# Altium schematic symbol library ADolya_ShLib.SchLib: 20 symbols
Pins are listed as number, name and electrical type; pins without a type are passive.

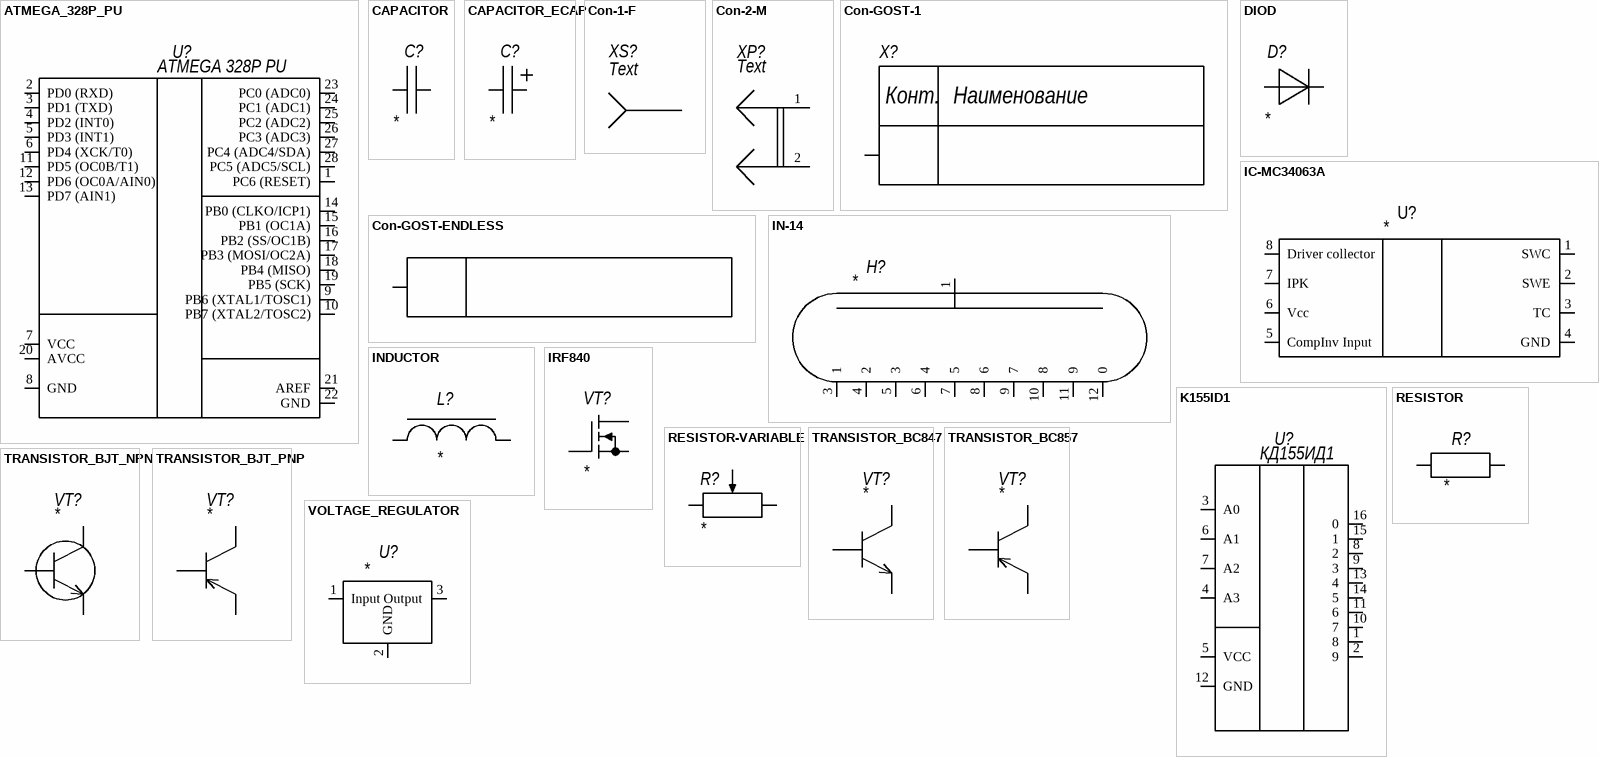
[diagram p0: symbols ATMEGA_328P_PU to VOLTAGE_REGULATOR]

## ATMEGA_328P_PU
designator U?, comment ATMEGA 328P PU
MANUFACTURER: *; MODEL: ATMEGA 328P PU; URL: *
footprint DIP28
pins: 1 PC6 (RESET) (power), 2 PD0 (RXD) (power), 3 PD1 (TXD) (power), 4 PD2 (INT0) (power), 5 PD3 (INT1) (power), 6 PD4 (XCK/T0) (power), 7 VCC (power), 8 GND (power), 9 PB6 (XTAL1/TOSC1) (power), 10 PB7 (XTAL2/TOSC2) (power), 11 PD5 (OC0B/T1) (power), 12 PD6 (OC0A/AIN0) (power), 13 PD7 (AIN1) (power), 14 PB0 (CLKO/ICP1) (power), 15 PB1 (OC1A) (power), 16 PB2 (SS/OC1B) (power), 17 PB3 (MOSI/OC2A) (power), 18 PB4 (MISO) (power), 19 PB5 (SCK) (power), 20 AVCC (power), 21 AREF (power), 22 GND (power), 23 PC0 (ADC0) (power), 24 PC1 (ADC1) (power), 25 PC2 (ADC2) (power), 26 PC3 (ADC3) (power), 27 PC4 (ADC4/SDA) (power), 28 PC5 (ADC5/SCL) (power)

## CAPACITOR
designator C?
VALUE: *; MODEL: *; MANUFATURER: *; CASE: *; URL: *
footprint C_AXIAL_K10-17
footprint C1206 (3216M)
footprint C0805 (2012M)
pins: 1 (power), 2 (power)

## CAPACITOR_ECAP
designator C?
VALUE: *; MODEL: *; MANUFATURER: *; CASE: *; URL: *
footprint ECAP-10x16-5
pins: 1 (power), 2 (power)

## Con-1-F
designator XS?, comment Text
Published: 07.03.2013; Publisher: Andrew Danich; Type: Розетка
pins: 1

## Con-2-M
designator XP?, comment Text
Value: Connector; Published: 07.03.2013; Publisher: Andrew Danich; Type: Вилка
footprint 2_PIN_INPUT
pins: 1, 2

## Con-GOST-1
designator X?  (value not drawn)
pins: 1 (power)
text: Конт.; Наименование

## Con-GOST-ENDLESS
designator ?  (value not drawn)
pins: 1 (power)

## DIOD
designator D?
MODEL: *; URL: *
footprint DO-41
pins: A (power), C (power)

## IC-MC34063A
designator U?
MODEL: *; URL: *
footprint DIP8
pins: 1 SWC (power), 2 SWE (power), 3 TC (power), 4 GND (power), 5 CompInv Input (power), 6 Vcc (power), 7 IPK (power), 8 Driver collector (power)

## IN-14
designator H?
MODEL: *
footprint IN-14
pins: 1 А (power), 3 1 (power), 4 2 (power), 5 3 (power), 6 4 (power), 7 5 (power), 8 6 (power), 9 7 (power), 10 8 (power), 11 9 (power), 12 0 (power)

## INDUCTOR
designator L?
VALUE: *
footprint INDUCTOR_AXIAL
footprint INDUCTOR 0912
pins: 1, 2

## IRF840
designator VT?
MODEL: *; URL: *; CASE: *
footprint TO-220_HORIZONTAL
pins: 1 G, 2 D, 3 S

## K155ID1
designator U?, comment КД155ИД1
MODEL: КД155ИД1; URL: *
footprint DIP16
pins: 1 8 (power), 2 9 (power), 3 A0 (power), 4 A3 (power), 5 VCC (power), 6 A1 (power), 7 A2 (power), 8 2 (power), 9 3 (power), 10 7 (power), 11 6 (power), 12 GND (power), 13 4 (power), 14 5 (power), 15 1 (power), 16 0 (power)

## RESISTOR
designator R?
MODEL: *; MANUFACTURER: *; URL: *; CASE: *; VALUE: *
footprint R1206
footprint R0805
footprint R_AXIAL_025W
footprint R2512
pins: 1, 2

## RESISTOR-VARIABLE
designator R?
URL: *; VALUE: *; TYPE: *
footprint 3362P
pins: 1, 2 TAP, 3

## TRANSISTOR_BC847
designator VT?
MODEL: *; URL: *
footprint SOT-23
pins: 1 Б "База", 2 Э "Эмиттер", 3 К "Коллектор"

## TRANSISTOR_BC857
designator VT?
MODEL: *; URL: *
footprint SOT-23
pins: 1 Б "База", 2 Э "Эмиттер", 3 К "Коллектор"

## TRANSISTOR_BJT_NPN
designator VT?
MODEL: *; URL: *
footprint TO-92
pins: 1 Э "Эмиттер", 2 Б "База", 3 К "Коллектор"

## TRANSISTOR_BJT_PNP
designator VT?
MODEL: *; URL: *
footprint TO-92
pins: 1 Э "Эмиттер", 2 Б "База", 3 К "Коллектор"

## VOLTAGE_REGULATOR
designator U?
MODEL: *; MANUFACTURER: *; URL: *; CASE: *
footprint TO-220
footprint TO-220_HORIZONTAL
pins: 1 Input (power), 2 GND (power), 3 Output (power)